# Altium integrated library Linear Technology PMIC-Switching Reg LT1074-LT8705.IntLib: 2252 symbols (part 70 of 124)
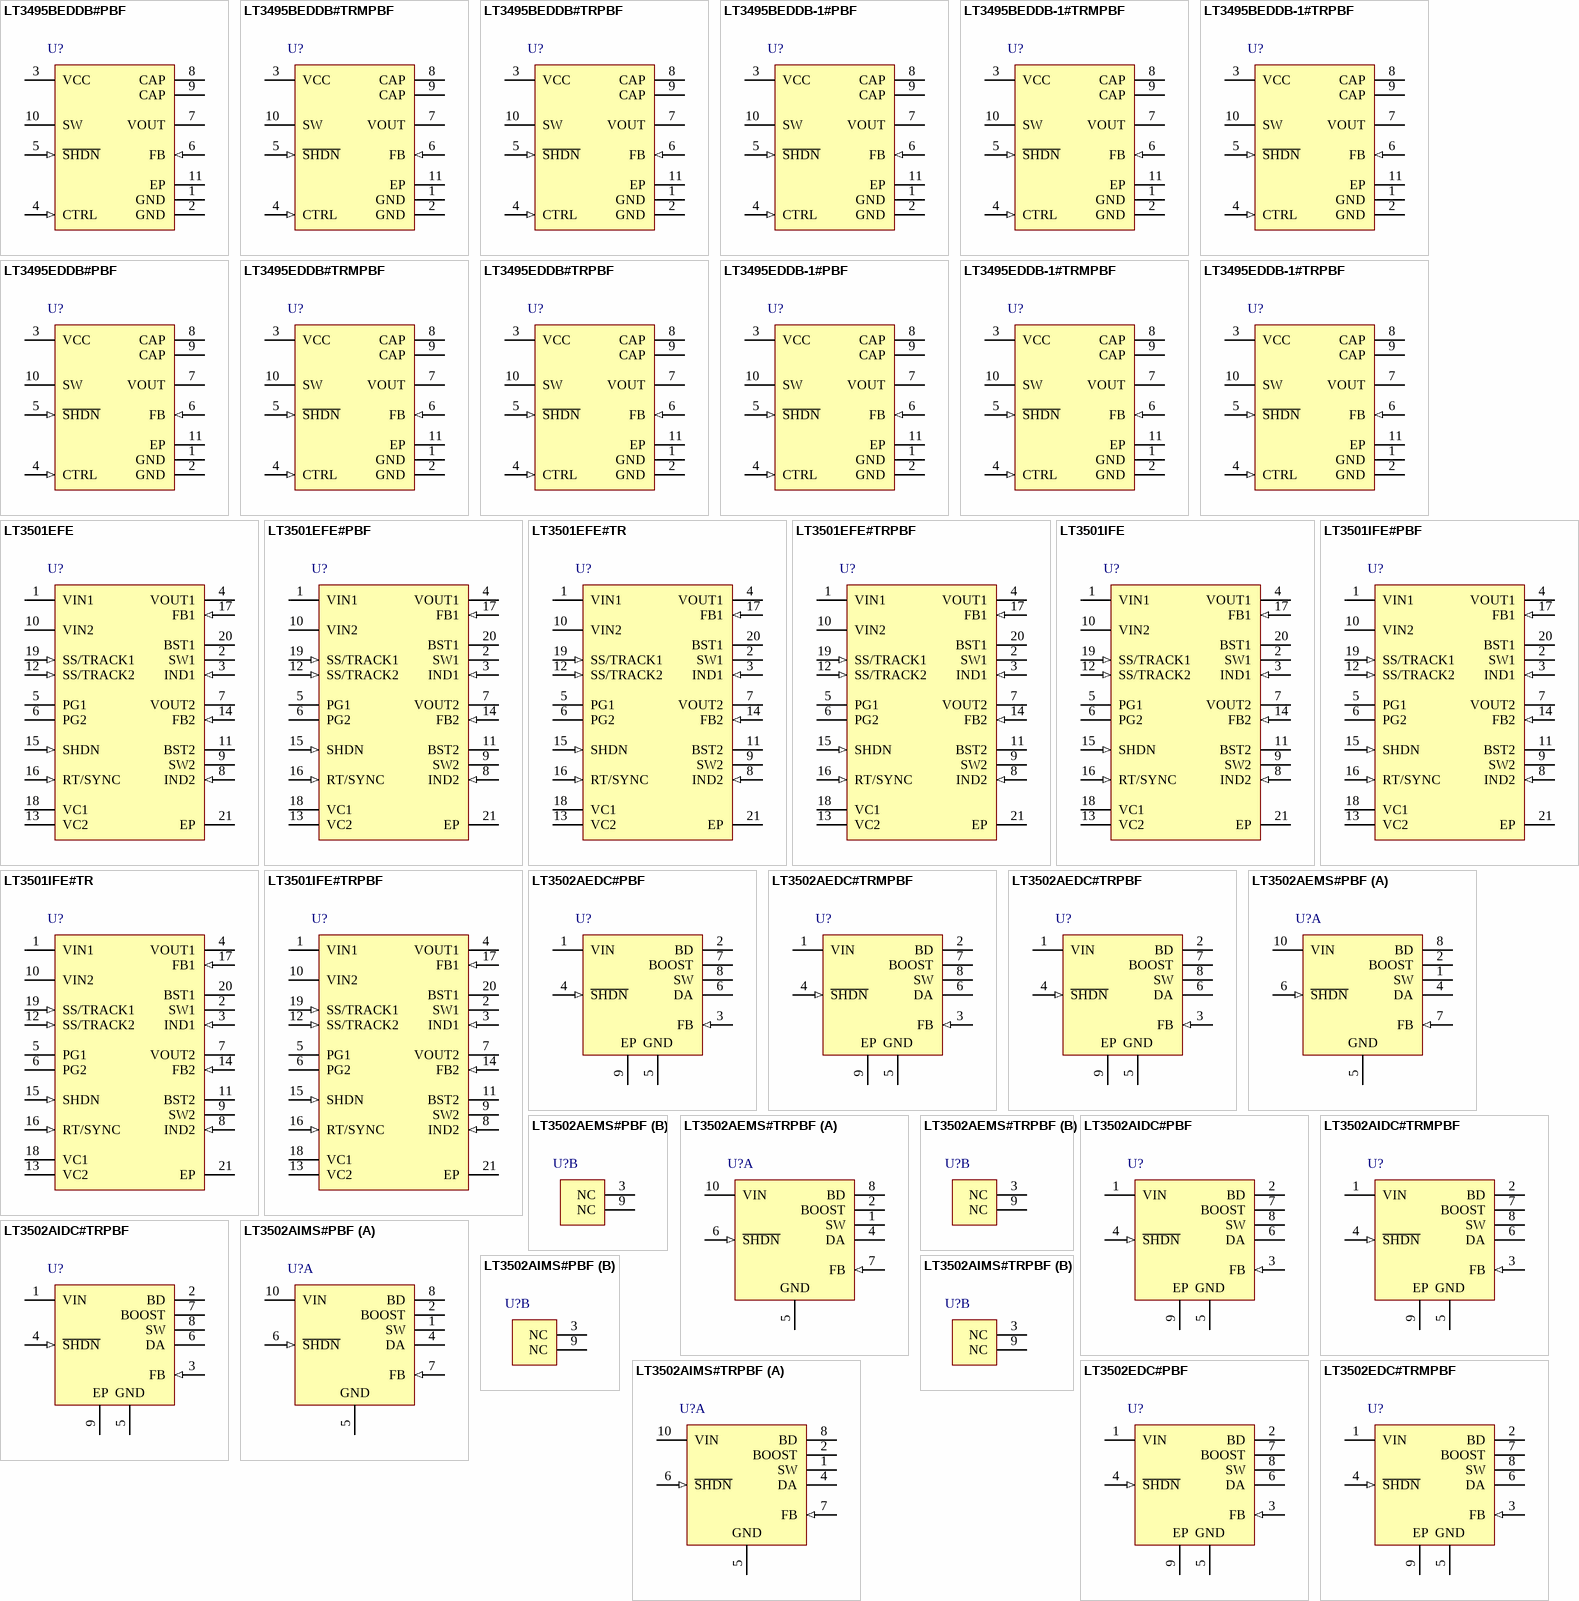
[diagram p140: symbols LT3495BEDDB#PBF to LT3502EDC#TRMPBF]

## LT3495BEDDB#TRMPBF
designator U?
650 mA / 350 mA Micropower Low Noise Boost Converter with Output Disconnect, 10-pin SON (DDB10), -40 to 125 degC, Pb-Free, Mini Tape and Reel; Manufacturer: Linear Technology; PartNumber: LT3495BEDDB#TRMPBF; Number of Outputs: 1; PackageReference: DDB10; PackageDescription: 10-Pin Plastic DFN, Body 3 x 2 mm, Pitch 0.5 mm; Supplier 1: Digi-Key; Supplier Part Number 1: LT3495BEDDB#TRMPBFTR-ND; RoHS: TRUE
footprint LT-DDB-10_V (SON, 10-Leads, Body 3x2mm, Pitch 0.5mm, Thermal Pad 2.39x0.64mm)
pins: 1 GND (power) "Ground. Tie directly to local ground plane.", 2 GND (power) "Ground. Tie directly to local ground plane.", 3 VCC (power) "Input Supply Pin. Must be locally bypassed.", 4 CTRL (in) "Dimming Pin. If not used, tie CTRL to 1.5V or higher. If in use, drive CTRL below 1.235V to override the internal reference. See Applications section for more information.", 5 ~{SHDN} (in) "Shutdown Pin. Tie to 1.5V or more to enable chip. Ground to shut down.", 6 FB (in) "Feedback Pin. Minimize the metal trace area to this pin to minimize noise. Reference voltage is 1.235V. There is an internal 76k resistor from the FB pin to GND.", 7 VOUT (power) "Drain of Output Disconnect PMOS. Place a bypass capacitor from this pin to GND. See Applications information.", 8 CAP "Source of Output Disconnect PMOS. Place a bypass capacitor from this pin to GND.", 9 CAP "Source of Output Disconnect PMOS. Place a bypass capacitor from this pin to GND.", 10 SW "Switch Pin. This is the collector of the internal NPN power switch. Minimize the metal trace area connected to this pin to minimize EMI.", 11 EP (power) "Ground. This pin must be soldered to PCB."

## LT3495BEDDB#TRPBF
designator U?
650 mA / 350 mA Micropower Low Noise Boost Converter with Output Disconnect, 10-pin SON (DDB10), -40 to 125 degC, Pb-Free, Tape and Reel; Manufacturer: Linear Technology; PartNumber: LT3495BEDDB#TRPBF; Number of Outputs: 1; PackageReference: DDB10; PackageDescription: 10-Pin Plastic DFN, Body 3 x 2 mm, Pitch 0.5 mm; Supplier 1: Digi-Key; Supplier Part Number 1: LT3495BEDDB#TRPBF-ND; RoHS: TRUE
footprint LT-DDB-10_V (SON, 10-Leads, Body 3x2mm, Pitch 0.5mm, Thermal Pad 2.39x0.64mm)
pins: 1 GND (power) "Ground. Tie directly to local ground plane.", 2 GND (power) "Ground. Tie directly to local ground plane.", 3 VCC (power) "Input Supply Pin. Must be locally bypassed.", 4 CTRL (in) "Dimming Pin. If not used, tie CTRL to 1.5V or higher. If in use, drive CTRL below 1.235V to override the internal reference. See Applications section for more information.", 5 ~{SHDN} (in) "Shutdown Pin. Tie to 1.5V or more to enable chip. Ground to shut down.", 6 FB (in) "Feedback Pin. Minimize the metal trace area to this pin to minimize noise. Reference voltage is 1.235V. There is an internal 76k resistor from the FB pin to GND.", 7 VOUT (power) "Drain of Output Disconnect PMOS. Place a bypass capacitor from this pin to GND. See Applications information.", 8 CAP "Source of Output Disconnect PMOS. Place a bypass capacitor from this pin to GND.", 9 CAP "Source of Output Disconnect PMOS. Place a bypass capacitor from this pin to GND.", 10 SW "Switch Pin. This is the collector of the internal NPN power switch. Minimize the metal trace area connected to this pin to minimize EMI.", 11 EP (power) "Ground. This pin must be soldered to PCB."

## LT3495BEDDB-1#PBF
designator U?
650 mA / 350 mA Micropower Low Noise Boost Converter with Output Disconnect, 10-pin SON (DDB10), -40 to 125 degC, Pb-Free; Manufacturer: Linear Technology; PartNumber: LT3495BEDDB-1#PBF; Number of Outputs: 1; PackageReference: DDB10; PackageDescription: 10-Pin Plastic DFN, Body 3 x 2 mm, Pitch 0.5 mm; Supplier 1: Farnell; Supplier Part Number 1: 2308209; RoHS: TRUE
footprint LT-DDB-10_V (SON, 10-Leads, Body 3x2mm, Pitch 0.5mm, Thermal Pad 2.39x0.64mm)
pins: 1 GND (power) "Ground. Tie directly to local ground plane.", 2 GND (power) "Ground. Tie directly to local ground plane.", 3 VCC (power) "Input Supply Pin. Must be locally bypassed.", 4 CTRL (in) "Dimming Pin. If not used, tie CTRL to 1.5V or higher. If in use, drive CTRL below 1.235V to override the internal reference. See Applications section for more information.", 5 ~{SHDN} (in) "Shutdown Pin. Tie to 1.5V or more to enable chip. Ground to shut down.", 6 FB (in) "Feedback Pin. Minimize the metal trace area to this pin to minimize noise. Reference voltage is 1.235V. There is an internal 76k resistor from the FB pin to GND.", 7 VOUT (power) "Drain of Output Disconnect PMOS. Place a bypass capacitor from this pin to GND. See Applications information.", 8 CAP "Source of Output Disconnect PMOS. Place a bypass capacitor from this pin to GND.", 9 CAP "Source of Output Disconnect PMOS. Place a bypass capacitor from this pin to GND.", 10 SW "Switch Pin. This is the collector of the internal NPN power switch. Minimize the metal trace area connected to this pin to minimize EMI.", 11 EP (power) "Ground. This pin must be soldered to PCB."

## LT3495BEDDB-1#TRMPBF
designator U?
650 mA / 350 mA Micropower Low Noise Boost Converter with Output Disconnect, 10-pin SON (DDB10), -40 to 125 degC, Pb-Free, Mini Tape and Reel; Manufacturer: Linear Technology; PartNumber: LT3495BEDDB-1#TRMPBF; Number of Outputs: 1; PackageReference: DDB10; PackageDescription: 10-Pin Plastic DFN, Body 3 x 2 mm, Pitch 0.5 mm; Supplier 1: Digi-Key; Supplier Part Number 1: LT3495BEDDB-1#TRMPBFTR-ND; RoHS: TRUE
footprint LT-DDB-10_V (SON, 10-Leads, Body 3x2mm, Pitch 0.5mm, Thermal Pad 2.39x0.64mm)
pins: 1 GND (power) "Ground. Tie directly to local ground plane.", 2 GND (power) "Ground. Tie directly to local ground plane.", 3 VCC (power) "Input Supply Pin. Must be locally bypassed.", 4 CTRL (in) "Dimming Pin. If not used, tie CTRL to 1.5V or higher. If in use, drive CTRL below 1.235V to override the internal reference. See Applications section for more information.", 5 ~{SHDN} (in) "Shutdown Pin. Tie to 1.5V or more to enable chip. Ground to shut down.", 6 FB (in) "Feedback Pin. Minimize the metal trace area to this pin to minimize noise. Reference voltage is 1.235V. There is an internal 76k resistor from the FB pin to GND.", 7 VOUT (power) "Drain of Output Disconnect PMOS. Place a bypass capacitor from this pin to GND. See Applications information.", 8 CAP "Source of Output Disconnect PMOS. Place a bypass capacitor from this pin to GND.", 9 CAP "Source of Output Disconnect PMOS. Place a bypass capacitor from this pin to GND.", 10 SW "Switch Pin. This is the collector of the internal NPN power switch. Minimize the metal trace area connected to this pin to minimize EMI.", 11 EP (power) "Ground. This pin must be soldered to PCB."

## LT3495BEDDB-1#TRPBF
designator U?
650 mA / 350 mA Micropower Low Noise Boost Converter with Output Disconnect, 10-pin SON (DDB10), -40 to 125 degC, Pb-Free, Tape and Reel; Manufacturer: Linear Technology; PartNumber: LT3495BEDDB-1#TRPBF; Number of Outputs: 1; PackageReference: DDB10; PackageDescription: 10-Pin Plastic DFN, Body 3 x 2 mm, Pitch 0.5 mm; Supplier 1: Digi-Key; Supplier Part Number 1: LT3495BEDDB-1#TRPBF-ND; RoHS: TRUE
footprint LT-DDB-10_V (SON, 10-Leads, Body 3x2mm, Pitch 0.5mm, Thermal Pad 2.39x0.64mm)
pins: 1 GND (power) "Ground. Tie directly to local ground plane.", 2 GND (power) "Ground. Tie directly to local ground plane.", 3 VCC (power) "Input Supply Pin. Must be locally bypassed.", 4 CTRL (in) "Dimming Pin. If not used, tie CTRL to 1.5V or higher. If in use, drive CTRL below 1.235V to override the internal reference. See Applications section for more information.", 5 ~{SHDN} (in) "Shutdown Pin. Tie to 1.5V or more to enable chip. Ground to shut down.", 6 FB (in) "Feedback Pin. Minimize the metal trace area to this pin to minimize noise. Reference voltage is 1.235V. There is an internal 76k resistor from the FB pin to GND.", 7 VOUT (power) "Drain of Output Disconnect PMOS. Place a bypass capacitor from this pin to GND. See Applications information.", 8 CAP "Source of Output Disconnect PMOS. Place a bypass capacitor from this pin to GND.", 9 CAP "Source of Output Disconnect PMOS. Place a bypass capacitor from this pin to GND.", 10 SW "Switch Pin. This is the collector of the internal NPN power switch. Minimize the metal trace area connected to this pin to minimize EMI.", 11 EP (power) "Ground. This pin must be soldered to PCB."

## LT3495EDDB#PBF
designator U?
650 mA / 350 mA Micropower Low Noise Boost Converter with Output Disconnect, 10-pin SON (DDB10), -40 to 125 degC, Pb-Free; Manufacturer: Linear Technology; PartNumber: LT3495EDDB#PBF; Number of Outputs: 1; PackageReference: DDB10; PackageDescription: 10-Pin Plastic DFN, Body 3 x 2 mm, Pitch 0.5 mm; Supplier 1: Farnell; Supplier Part Number 1: 2308210; RoHS: TRUE
footprint LT-DDB-10_V (SON, 10-Leads, Body 3x2mm, Pitch 0.5mm, Thermal Pad 2.39x0.64mm)
pins: 1 GND (power) "Ground. Tie directly to local ground plane.", 2 GND (power) "Ground. Tie directly to local ground plane.", 3 VCC (power) "Input Supply Pin. Must be locally bypassed.", 4 CTRL (in) "Dimming Pin. If not used, tie CTRL to 1.5V or higher. If in use, drive CTRL below 1.235V to override the internal reference. See Applications section for more information.", 5 ~{SHDN} (in) "Shutdown Pin. Tie to 1.5V or more to enable chip. Ground to shut down.", 6 FB (in) "Feedback Pin. Minimize the metal trace area to this pin to minimize noise. Reference voltage is 1.235V. There is an internal 76k resistor from the FB pin to GND.", 7 VOUT (power) "Drain of Output Disconnect PMOS. Place a bypass capacitor from this pin to GND. See Applications information.", 8 CAP "Source of Output Disconnect PMOS. Place a bypass capacitor from this pin to GND.", 9 CAP "Source of Output Disconnect PMOS. Place a bypass capacitor from this pin to GND.", 10 SW "Switch Pin. This is the collector of the internal NPN power switch. Minimize the metal trace area connected to this pin to minimize EMI.", 11 EP (power) "Ground. This pin must be soldered to PCB."

## LT3495EDDB#TRMPBF
designator U?
650 mA / 350 mA Micropower Low Noise Boost Converter with Output Disconnect, 10-pin SON (DDB10), -40 to 125 degC, Pb-Free, Mini Tape and Reel; Manufacturer: Linear Technology; PartNumber: LT3495EDDB#TRMPBF; Number of Outputs: 1; PackageReference: DDB10; PackageDescription: 10-Pin Plastic DFN, Body 3 x 2 mm, Pitch 0.5 mm; Supplier 1: Digi-Key; Supplier Part Number 1: LT3495EDDB#TRMPBFTR-ND; RoHS: TRUE
footprint LT-DDB-10_V (SON, 10-Leads, Body 3x2mm, Pitch 0.5mm, Thermal Pad 2.39x0.64mm)
pins: 1 GND (power) "Ground. Tie directly to local ground plane.", 2 GND (power) "Ground. Tie directly to local ground plane.", 3 VCC (power) "Input Supply Pin. Must be locally bypassed.", 4 CTRL (in) "Dimming Pin. If not used, tie CTRL to 1.5V or higher. If in use, drive CTRL below 1.235V to override the internal reference. See Applications section for more information.", 5 ~{SHDN} (in) "Shutdown Pin. Tie to 1.5V or more to enable chip. Ground to shut down.", 6 FB (in) "Feedback Pin. Minimize the metal trace area to this pin to minimize noise. Reference voltage is 1.235V. There is an internal 76k resistor from the FB pin to GND.", 7 VOUT (power) "Drain of Output Disconnect PMOS. Place a bypass capacitor from this pin to GND. See Applications information.", 8 CAP "Source of Output Disconnect PMOS. Place a bypass capacitor from this pin to GND.", 9 CAP "Source of Output Disconnect PMOS. Place a bypass capacitor from this pin to GND.", 10 SW "Switch Pin. This is the collector of the internal NPN power switch. Minimize the metal trace area connected to this pin to minimize EMI.", 11 EP (power) "Ground. This pin must be soldered to PCB."

## LT3495EDDB#TRPBF
designator U?
650 mA / 350 mA Micropower Low Noise Boost Converter with Output Disconnect, 10-pin SON (DDB10), -40 to 125 degC, Pb-Free, Tape and Reel; Manufacturer: Linear Technology; PartNumber: LT3495EDDB#TRPBF; Number of Outputs: 1; PackageReference: DDB10; PackageDescription: 10-Pin Plastic DFN, Body 3 x 2 mm, Pitch 0.5 mm; Supplier 1: Digi-Key; Supplier Part Number 1: LT3495EDDB#TRPBF-ND; RoHS: TRUE
footprint LT-DDB-10_V (SON, 10-Leads, Body 3x2mm, Pitch 0.5mm, Thermal Pad 2.39x0.64mm)
pins: 1 GND (power) "Ground. Tie directly to local ground plane.", 2 GND (power) "Ground. Tie directly to local ground plane.", 3 VCC (power) "Input Supply Pin. Must be locally bypassed.", 4 CTRL (in) "Dimming Pin. If not used, tie CTRL to 1.5V or higher. If in use, drive CTRL below 1.235V to override the internal reference. See Applications section for more information.", 5 ~{SHDN} (in) "Shutdown Pin. Tie to 1.5V or more to enable chip. Ground to shut down.", 6 FB (in) "Feedback Pin. Minimize the metal trace area to this pin to minimize noise. Reference voltage is 1.235V. There is an internal 76k resistor from the FB pin to GND.", 7 VOUT (power) "Drain of Output Disconnect PMOS. Place a bypass capacitor from this pin to GND. See Applications information.", 8 CAP "Source of Output Disconnect PMOS. Place a bypass capacitor from this pin to GND.", 9 CAP "Source of Output Disconnect PMOS. Place a bypass capacitor from this pin to GND.", 10 SW "Switch Pin. This is the collector of the internal NPN power switch. Minimize the metal trace area connected to this pin to minimize EMI.", 11 EP (power) "Ground. This pin must be soldered to PCB."

## LT3495EDDB-1#PBF
designator U?
650 mA / 350 mA Micropower Low Noise Boost Converter with Output Disconnect, 10-pin SON (DDB10), -40 to 125 degC, Pb-Free; Manufacturer: Linear Technology; PartNumber: LT3495EDDB-1#PBF; Number of Outputs: 1; PackageReference: DDB10; PackageDescription: 10-Pin Plastic DFN, Body 3 x 2 mm, Pitch 0.5 mm; RoHS: TRUE
footprint LT-DDB-10_V (SON, 10-Leads, Body 3x2mm, Pitch 0.5mm, Thermal Pad 2.39x0.64mm)
pins: 1 GND (power) "Ground. Tie directly to local ground plane.", 2 GND (power) "Ground. Tie directly to local ground plane.", 3 VCC (power) "Input Supply Pin. Must be locally bypassed.", 4 CTRL (in) "Dimming Pin. If not used, tie CTRL to 1.5V or higher. If in use, drive CTRL below 1.235V to override the internal reference. See Applications section for more information.", 5 ~{SHDN} (in) "Shutdown Pin. Tie to 1.5V or more to enable chip. Ground to shut down.", 6 FB (in) "Feedback Pin. Minimize the metal trace area to this pin to minimize noise. Reference voltage is 1.235V. There is an internal 76k resistor from the FB pin to GND.", 7 VOUT (power) "Drain of Output Disconnect PMOS. Place a bypass capacitor from this pin to GND. See Applications information.", 8 CAP "Source of Output Disconnect PMOS. Place a bypass capacitor from this pin to GND.", 9 CAP "Source of Output Disconnect PMOS. Place a bypass capacitor from this pin to GND.", 10 SW "Switch Pin. This is the collector of the internal NPN power switch. Minimize the metal trace area connected to this pin to minimize EMI.", 11 EP (power) "Ground. This pin must be soldered to PCB."

## LT3495EDDB-1#TRMPBF
designator U?
650 mA / 350 mA Micropower Low Noise Boost Converter with Output Disconnect, 10-pin SON (DDB10), -40 to 125 degC, Pb-Free, Tape and Reel; Manufacturer: Linear Technology; PartNumber: LT3495EDDB-1#TRMPBF; Number of Outputs: 1; PackageReference: DDB10; PackageDescription: 10-Pin Plastic DFN, Body 3 x 2 mm, Pitch 0.5 mm; Supplier 1: Digi-Key; Supplier Part Number 1: LT3495EDDB-1#TRMPBFTR-ND; RoHS: TRUE
footprint LT-DDB-10_V (SON, 10-Leads, Body 3x2mm, Pitch 0.5mm, Thermal Pad 2.39x0.64mm)
pins: 1 GND (power) "Ground. Tie directly to local ground plane.", 2 GND (power) "Ground. Tie directly to local ground plane.", 3 VCC (power) "Input Supply Pin. Must be locally bypassed.", 4 CTRL (in) "Dimming Pin. If not used, tie CTRL to 1.5V or higher. If in use, drive CTRL below 1.235V to override the internal reference. See Applications section for more information.", 5 ~{SHDN} (in) "Shutdown Pin. Tie to 1.5V or more to enable chip. Ground to shut down.", 6 FB (in) "Feedback Pin. Minimize the metal trace area to this pin to minimize noise. Reference voltage is 1.235V. There is an internal 76k resistor from the FB pin to GND.", 7 VOUT (power) "Drain of Output Disconnect PMOS. Place a bypass capacitor from this pin to GND. See Applications information.", 8 CAP "Source of Output Disconnect PMOS. Place a bypass capacitor from this pin to GND.", 9 CAP "Source of Output Disconnect PMOS. Place a bypass capacitor from this pin to GND.", 10 SW "Switch Pin. This is the collector of the internal NPN power switch. Minimize the metal trace area connected to this pin to minimize EMI.", 11 EP (power) "Ground. This pin must be soldered to PCB."

## LT3495EDDB-1#TRPBF
designator U?
650 mA / 350 mA Micropower Low Noise Boost Converter with Output Disconnect, 10-pin SON (DDB10), -40 to 125 degC, Pb-Free, Tape and Reel; Manufacturer: Linear Technology; PartNumber: LT3495EDDB-1#TRPBF; Number of Outputs: 1; PackageReference: DDB10; PackageDescription: 10-Pin Plastic DFN, Body 3 x 2 mm, Pitch 0.5 mm; Supplier 1: Digi-Key; Supplier Part Number 1: LT3495EDDB-1#TRPBF-ND; RoHS: TRUE
footprint LT-DDB-10_V (SON, 10-Leads, Body 3x2mm, Pitch 0.5mm, Thermal Pad 2.39x0.64mm)
pins: 1 GND (power) "Ground. Tie directly to local ground plane.", 2 GND (power) "Ground. Tie directly to local ground plane.", 3 VCC (power) "Input Supply Pin. Must be locally bypassed.", 4 CTRL (in) "Dimming Pin. If not used, tie CTRL to 1.5V or higher. If in use, drive CTRL below 1.235V to override the internal reference. See Applications section for more information.", 5 ~{SHDN} (in) "Shutdown Pin. Tie to 1.5V or more to enable chip. Ground to shut down.", 6 FB (in) "Feedback Pin. Minimize the metal trace area to this pin to minimize noise. Reference voltage is 1.235V. There is an internal 76k resistor from the FB pin to GND.", 7 VOUT (power) "Drain of Output Disconnect PMOS. Place a bypass capacitor from this pin to GND. See Applications information.", 8 CAP "Source of Output Disconnect PMOS. Place a bypass capacitor from this pin to GND.", 9 CAP "Source of Output Disconnect PMOS. Place a bypass capacitor from this pin to GND.", 10 SW "Switch Pin. This is the collector of the internal NPN power switch. Minimize the metal trace area connected to this pin to minimize EMI.", 11 EP (power) "Ground. This pin must be soldered to PCB."

## LT3501EFE
designator U?
Monolithic Dual Tracking 3 A Step-Down Switching Regulator, 20-pin SOP (FE-20-EPV-CB), -40 to 125 degC; Manufacturer: Linear Technology; PartNumber: LT3501EFE; Number of Outputs: 2; PackageReference: FE-20; PackageDescription: 20-Pin Plastic TSSOP, Body 6.5 x 4.4 mm, Pitch 0.65 mm; RoHS: FALSE
footprint LT-FE-20-EPV-CB_N (SOP, 20-Leads, Body 6.6x4.5mm, Pitch 0.65mm, Thermal Pad 3.86x2.74mm, IPC Medium Density)
footprint LT-FE-20-EPV-CB_L (SOP, 20-Leads, Body 6.6x4.5mm, Pitch 0.65mm, Thermal Pad 3.86x2.74mm, IPC High Density)
footprint LT-FE-20-EPV-CB_M (SOP, 20-Leads, Body 6.6x4.5mm, Pitch 0.65mm, Thermal Pad 3.86x2.74mm, IPC Low Density)
pins: 1 VIN1 (power) "The VIN1 pin powers the internal control circuitry for both channels and is monitored by the undervoltage lockout comparator. The VIN1 pin is also connected to the collector of channel 1’s on-chip power NPN switch. Th(See Datasheet)", 2 SW1 "The SW pin is the emitter of the onchip power NPN. At switch-off, the inductor will drive this pin below ground with a high dV/dt. An external Schottky catch diode to ground, close to the SW pin and respective VIN decoupling (See Datasheet)", 3 IND1 (in) "The IND pin is the input to the on-chip sense resistor that measures current flowing in the inductor. When the current in the resistor exceeds the current dictated by the VC pin, the SW latch is held in reset, disabling the (See Datasheet)", 4 VOUT1 (power) "The VOUT pin is the output to the on-chip sense resistor that measures current flowing in the inductor. When the current in the resistor exceeds the current dictated by the VC pin, the SW latch is held in reset, disabling (See Datasheet)", 5 PG1 (oc) "The power good pin is an open-collector output that sinks current when the feedback falls below 90% of its nominal regulating voltage. For VIN1 above 1V, its output state remains true, although during shutdown, VIN1 (See Datasheet)", 6 PG2 (oc) "The power good pin is an open-collector output that sinks current when the feedback falls below 90% of its nominal regulating voltage. For VIN1 above 1V, its output state remains true, although during shutdown, VIN1 (See Datasheet)", 7 VOUT2 (power) "The VOUT pin is the output to the on-chip sense resistor that measures current flowing in the inductor. When the current in the resistor exceeds the current dictated by the VC pin, the SW latch is held in reset, disabling (See Datasheet)", 8 IND2 (in) "The IND pin is the input to the on-chip sense resistor that measures current flowing in the inductor. When the current in the resistor exceeds the current dictated by the VC pin, the SW latch is held in reset, disabling the (See Datasheet)", 9 SW2 "The SW pin is the emitter of the onchip power NPN. At switch-off, the inductor will drive this pin below ground with a high dV/dt. An external Schottky catch diode to ground, close to the SW pin and respective VIN decoupling (See Datasheet)", 10 VIN2 (power) "The VIN2 pin is the collector of channel 2’s on-chip power NPN switch. This pin is independent of VIN1 and may be connected to the same or a separate supply. In either case, high dI/dt edges are present and decoupling t(See Datasheet)", 11 BST2 "The BST pin provides a higher than VIN base drive to the power NPN to ensure a low switch drop. A comparator to VIN imposes a minimum off-time on the SW pin if the BST pin voltage drops too low. Forcing a SW off-time allows (See Datasheet)", 12 SS/TRACK2 (in) "The SS1/2 pins control the softstart and sequence of their respective outputs. A single capacitor from the SS pin to ground determines the output ramp rate. For soft-start and output tracking/sequencing details, see the (See Datasheet)", 13 VC2 "The VC pin is the output of the error amplifier and the input to the peak switch current  comparator. It is normally used for frequency compensation, but can also be used as a current clamp or control loop override. If the (See Datasheet)", 14 FB2 (in) "The FB pin is the negative input to the error amplifier. The output switches regulate this pin to 0.8V, with respect to the exposed ground pad. Bias current flows out of the FB pin.", 15 SHDN (in) "The shutdown pin is used to turn off both channels and control circuitry to reduce quiescent current to a typical value of 9uA. The accurate 1.28V threshold and input current hysteresis can be used as an undervoltage (See Datasheet)", 16 RT/SYNC (in) "This RT/SYNC pin provides two modes of setting the constant switch frequency.", 17 FB1 (in) "The FB pin is the negative input to the error amplifier. The output switches regulate this pin to 0.8V, with respect to the exposed ground pad. Bias current flows out of the FB pin.", 18 VC1 "The VC pin is the output of the error amplifier and the input to the peak switch current  comparator. It is normally used for frequency compensation, but can also be used as a current clamp or control loop override. If the (See Datasheet)", 19 SS/TRACK1 (in) "The SS1/2 pins control the softstart and sequence of their respective outputs. A single capacitor from the SS pin to ground determines the output ramp rate. For soft-start and output tracking/sequencing details, see the (See Datasheet)", 20 BST1 "The BST pin provides a higher than VIN base drive to the power NPN to ensure a low switch drop. A comparator to VIN imposes a minimum off-time on the SW pin if the BST pin voltage drops too low. Forcing a SW off-time allows (See Datasheet)", 21 EP (power) "GND. The Exposed Pad GND pin is the only ground connection for the device. The Exposed Pad should be soldered to a large copper area to reduce thermal resistance. The GND pin is common to both channels and also serves as (See Datasheet)"

## LT3501EFE#PBF
designator U?
Monolithic Dual Tracking 3 A Step-Down Switching Regulator, 20-pin SOP (FE-20-EPV-CB), -40 to 125 degC, Pb-Free; Manufacturer: Linear Technology; PartNumber: LT3501EFE#PBF; Number of Outputs: 2; PackageReference: FE-20; PackageDescription: 20-Pin Plastic TSSOP, Body 6.5 x 4.4 mm, Pitch 0.65 mm; Supplier 1: Digi-Key; Supplier Part Number 1: LT3501EFE#PBF-ND; RoHS: TRUE
footprint LT-FE-20-EPV-CB_N (SOP, 20-Leads, Body 6.6x4.5mm, Pitch 0.65mm, Thermal Pad 3.86x2.74mm, IPC Medium Density)
footprint LT-FE-20-EPV-CB_L (SOP, 20-Leads, Body 6.6x4.5mm, Pitch 0.65mm, Thermal Pad 3.86x2.74mm, IPC High Density)
footprint LT-FE-20-EPV-CB_M (SOP, 20-Leads, Body 6.6x4.5mm, Pitch 0.65mm, Thermal Pad 3.86x2.74mm, IPC Low Density)
pins: 1 VIN1 (power) "The VIN1 pin powers the internal control circuitry for both channels and is monitored by the undervoltage lockout comparator. The VIN1 pin is also connected to the collector of channel 1’s on-chip power NPN switch. Th(See Datasheet)", 2 SW1 "The SW pin is the emitter of the onchip power NPN. At switch-off, the inductor will drive this pin below ground with a high dV/dt. An external Schottky catch diode to ground, close to the SW pin and respective VIN decoupling (See Datasheet)", 3 IND1 (in) "The IND pin is the input to the on-chip sense resistor that measures current flowing in the inductor. When the current in the resistor exceeds the current dictated by the VC pin, the SW latch is held in reset, disabling the (See Datasheet)", 4 VOUT1 (power) "The VOUT pin is the output to the on-chip sense resistor that measures current flowing in the inductor. When the current in the resistor exceeds the current dictated by the VC pin, the SW latch is held in reset, disabling (See Datasheet)", 5 PG1 (oc) "The power good pin is an open-collector output that sinks current when the feedback falls below 90% of its nominal regulating voltage. For VIN1 above 1V, its output state remains true, although during shutdown, VIN1 (See Datasheet)", 6 PG2 (oc) "The power good pin is an open-collector output that sinks current when the feedback falls below 90% of its nominal regulating voltage. For VIN1 above 1V, its output state remains true, although during shutdown, VIN1 (See Datasheet)", 7 VOUT2 (power) "The VOUT pin is the output to the on-chip sense resistor that measures current flowing in the inductor. When the current in the resistor exceeds the current dictated by the VC pin, the SW latch is held in reset, disabling (See Datasheet)", 8 IND2 (in) "The IND pin is the input to the on-chip sense resistor that measures current flowing in the inductor. When the current in the resistor exceeds the current dictated by the VC pin, the SW latch is held in reset, disabling the (See Datasheet)", 9 SW2 "The SW pin is the emitter of the onchip power NPN. At switch-off, the inductor will drive this pin below ground with a high dV/dt. An external Schottky catch diode to ground, close to the SW pin and respective VIN decoupling (See Datasheet)", 10 VIN2 (power) "The VIN2 pin is the collector of channel 2’s on-chip power NPN switch. This pin is independent of VIN1 and may be connected to the same or a separate supply. In either case, high dI/dt edges are present and decoupling t(See Datasheet)", 11 BST2 "The BST pin provides a higher than VIN base drive to the power NPN to ensure a low switch drop. A comparator to VIN imposes a minimum off-time on the SW pin if the BST pin voltage drops too low. Forcing a SW off-time allows (See Datasheet)", 12 SS/TRACK2 (in) "The SS1/2 pins control the softstart and sequence of their respective outputs. A single capacitor from the SS pin to ground determines the output ramp rate. For soft-start and output tracking/sequencing details, see the (See Datasheet)", 13 VC2 "The VC pin is the output of the error amplifier and the input to the peak switch current  comparator. It is normally used for frequency compensation, but can also be used as a current clamp or control loop override. If the (See Datasheet)", 14 FB2 (in) "The FB pin is the negative input to the error amplifier. The output switches regulate this pin to 0.8V, with respect to the exposed ground pad. Bias current flows out of the FB pin.", 15 SHDN (in) "The shutdown pin is used to turn off both channels and control circuitry to reduce quiescent current to a typical value of 9uA. The accurate 1.28V threshold and input current hysteresis can be used as an undervoltage (See Datasheet)", 16 RT/SYNC (in) "This RT/SYNC pin provides two modes of setting the constant switch frequency.", 17 FB1 (in) "The FB pin is the negative input to the error amplifier. The output switches regulate this pin to 0.8V, with respect to the exposed ground pad. Bias current flows out of the FB pin.", 18 VC1 "The VC pin is the output of the error amplifier and the input to the peak switch current  comparator. It is normally used for frequency compensation, but can also be used as a current clamp or control loop override. If the (See Datasheet)", 19 SS/TRACK1 (in) "The SS1/2 pins control the softstart and sequence of their respective outputs. A single capacitor from the SS pin to ground determines the output ramp rate. For soft-start and output tracking/sequencing details, see the (See Datasheet)", 20 BST1 "The BST pin provides a higher than VIN base drive to the power NPN to ensure a low switch drop. A comparator to VIN imposes a minimum off-time on the SW pin if the BST pin voltage drops too low. Forcing a SW off-time allows (See Datasheet)", 21 EP (power) "GND. The Exposed Pad GND pin is the only ground connection for the device. The Exposed Pad should be soldered to a large copper area to reduce thermal resistance. The GND pin is common to both channels and also serves as (See Datasheet)"

## LT3501EFE#TR
designator U?
Monolithic Dual Tracking 3 A Step-Down Switching Regulator, 20-pin SOP (FE-20-EPV-CB), -40 to 125 degC, Tape and Reel; Manufacturer: Linear Technology; PartNumber: LT3501EFE#TR; Number of Outputs: 2; PackageReference: FE-20; PackageDescription: 20-Pin Plastic TSSOP, Body 6.5 x 4.4 mm, Pitch 0.65 mm; RoHS: FALSE
footprint LT-FE-20-EPV-CB_N (SOP, 20-Leads, Body 6.6x4.5mm, Pitch 0.65mm, Thermal Pad 3.86x2.74mm, IPC Medium Density)
footprint LT-FE-20-EPV-CB_L (SOP, 20-Leads, Body 6.6x4.5mm, Pitch 0.65mm, Thermal Pad 3.86x2.74mm, IPC High Density)
footprint LT-FE-20-EPV-CB_M (SOP, 20-Leads, Body 6.6x4.5mm, Pitch 0.65mm, Thermal Pad 3.86x2.74mm, IPC Low Density)
pins: 1 VIN1 (power) "The VIN1 pin powers the internal control circuitry for both channels and is monitored by the undervoltage lockout comparator. The VIN1 pin is also connected to the collector of channel 1’s on-chip power NPN switch. Th(See Datasheet)", 2 SW1 "The SW pin is the emitter of the onchip power NPN. At switch-off, the inductor will drive this pin below ground with a high dV/dt. An external Schottky catch diode to ground, close to the SW pin and respective VIN decoupling (See Datasheet)", 3 IND1 (in) "The IND pin is the input to the on-chip sense resistor that measures current flowing in the inductor. When the current in the resistor exceeds the current dictated by the VC pin, the SW latch is held in reset, disabling the (See Datasheet)", 4 VOUT1 (power) "The VOUT pin is the output to the on-chip sense resistor that measures current flowing in the inductor. When the current in the resistor exceeds the current dictated by the VC pin, the SW latch is held in reset, disabling (See Datasheet)", 5 PG1 (oc) "The power good pin is an open-collector output that sinks current when the feedback falls below 90% of its nominal regulating voltage. For VIN1 above 1V, its output state remains true, although during shutdown, VIN1 (See Datasheet)", 6 PG2 (oc) "The power good pin is an open-collector output that sinks current when the feedback falls below 90% of its nominal regulating voltage. For VIN1 above 1V, its output state remains true, although during shutdown, VIN1 (See Datasheet)", 7 VOUT2 (power) "The VOUT pin is the output to the on-chip sense resistor that measures current flowing in the inductor. When the current in the resistor exceeds the current dictated by the VC pin, the SW latch is held in reset, disabling (See Datasheet)", 8 IND2 (in) "The IND pin is the input to the on-chip sense resistor that measures current flowing in the inductor. When the current in the resistor exceeds the current dictated by the VC pin, the SW latch is held in reset, disabling the (See Datasheet)", 9 SW2 "The SW pin is the emitter of the onchip power NPN. At switch-off, the inductor will drive this pin below ground with a high dV/dt. An external Schottky catch diode to ground, close to the SW pin and respective VIN decoupling (See Datasheet)", 10 VIN2 (power) "The VIN2 pin is the collector of channel 2’s on-chip power NPN switch. This pin is independent of VIN1 and may be connected to the same or a separate supply. In either case, high dI/dt edges are present and decoupling t(See Datasheet)", 11 BST2 "The BST pin provides a higher than VIN base drive to the power NPN to ensure a low switch drop. A comparator to VIN imposes a minimum off-time on the SW pin if the BST pin voltage drops too low. Forcing a SW off-time allows (See Datasheet)", 12 SS/TRACK2 (in) "The SS1/2 pins control the softstart and sequence of their respective outputs. A single capacitor from the SS pin to ground determines the output ramp rate. For soft-start and output tracking/sequencing details, see the (See Datasheet)", 13 VC2 "The VC pin is the output of the error amplifier and the input to the peak switch current  comparator. It is normally used for frequency compensation, but can also be used as a current clamp or control loop override. If the (See Datasheet)", 14 FB2 (in) "The FB pin is the negative input to the error amplifier. The output switches regulate this pin to 0.8V, with respect to the exposed ground pad. Bias current flows out of the FB pin.", 15 SHDN (in) "The shutdown pin is used to turn off both channels and control circuitry to reduce quiescent current to a typical value of 9uA. The accurate 1.28V threshold and input current hysteresis can be used as an undervoltage (See Datasheet)", 16 RT/SYNC (in) "This RT/SYNC pin provides two modes of setting the constant switch frequency.", 17 FB1 (in) "The FB pin is the negative input to the error amplifier. The output switches regulate this pin to 0.8V, with respect to the exposed ground pad. Bias current flows out of the FB pin.", 18 VC1 "The VC pin is the output of the error amplifier and the input to the peak switch current  comparator. It is normally used for frequency compensation, but can also be used as a current clamp or control loop override. If the (See Datasheet)", 19 SS/TRACK1 (in) "The SS1/2 pins control the softstart and sequence of their respective outputs. A single capacitor from the SS pin to ground determines the output ramp rate. For soft-start and output tracking/sequencing details, see the (See Datasheet)", 20 BST1 "The BST pin provides a higher than VIN base drive to the power NPN to ensure a low switch drop. A comparator to VIN imposes a minimum off-time on the SW pin if the BST pin voltage drops too low. Forcing a SW off-time allows (See Datasheet)", 21 EP (power) "GND. The Exposed Pad GND pin is the only ground connection for the device. The Exposed Pad should be soldered to a large copper area to reduce thermal resistance. The GND pin is common to both channels and also serves as (See Datasheet)"

## LT3501EFE#TRPBF
designator U?
Monolithic Dual Tracking 3 A Step-Down Switching Regulator, 20-pin SOP (FE-20-EPV-CB), -40 to 125 degC, Pb-Free, Tape and Reel; Manufacturer: Linear Technology; PartNumber: LT3501EFE#TRPBF; Number of Outputs: 2; PackageReference: FE-20; PackageDescription: 20-Pin Plastic TSSOP, Body 6.5 x 4.4 mm, Pitch 0.65 mm; Supplier 1: Digi-Key; Supplier Part Number 1: LT3501EFE#TRPBF-ND; RoHS: TRUE
footprint LT-FE-20-EPV-CB_N (SOP, 20-Leads, Body 6.6x4.5mm, Pitch 0.65mm, Thermal Pad 3.86x2.74mm, IPC Medium Density)
footprint LT-FE-20-EPV-CB_L (SOP, 20-Leads, Body 6.6x4.5mm, Pitch 0.65mm, Thermal Pad 3.86x2.74mm, IPC High Density)
footprint LT-FE-20-EPV-CB_M (SOP, 20-Leads, Body 6.6x4.5mm, Pitch 0.65mm, Thermal Pad 3.86x2.74mm, IPC Low Density)
pins: 1 VIN1 (power) "The VIN1 pin powers the internal control circuitry for both channels and is monitored by the undervoltage lockout comparator. The VIN1 pin is also connected to the collector of channel 1’s on-chip power NPN switch. Th(See Datasheet)", 2 SW1 "The SW pin is the emitter of the onchip power NPN. At switch-off, the inductor will drive this pin below ground with a high dV/dt. An external Schottky catch diode to ground, close to the SW pin and respective VIN decoupling (See Datasheet)", 3 IND1 (in) "The IND pin is the input to the on-chip sense resistor that measures current flowing in the inductor. When the current in the resistor exceeds the current dictated by the VC pin, the SW latch is held in reset, disabling the (See Datasheet)", 4 VOUT1 (power) "The VOUT pin is the output to the on-chip sense resistor that measures current flowing in the inductor. When the current in the resistor exceeds the current dictated by the VC pin, the SW latch is held in reset, disabling (See Datasheet)", 5 PG1 (oc) "The power good pin is an open-collector output that sinks current when the feedback falls below 90% of its nominal regulating voltage. For VIN1 above 1V, its output state remains true, although during shutdown, VIN1 (See Datasheet)", 6 PG2 (oc) "The power good pin is an open-collector output that sinks current when the feedback falls below 90% of its nominal regulating voltage. For VIN1 above 1V, its output state remains true, although during shutdown, VIN1 (See Datasheet)", 7 VOUT2 (power) "The VOUT pin is the output to the on-chip sense resistor that measures current flowing in the inductor. When the current in the resistor exceeds the current dictated by the VC pin, the SW latch is held in reset, disabling (See Datasheet)", 8 IND2 (in) "The IND pin is the input to the on-chip sense resistor that measures current flowing in the inductor. When the current in the resistor exceeds the current dictated by the VC pin, the SW latch is held in reset, disabling the (See Datasheet)", 9 SW2 "The SW pin is the emitter of the onchip power NPN. At switch-off, the inductor will drive this pin below ground with a high dV/dt. An external Schottky catch diode to ground, close to the SW pin and respective VIN decoupling (See Datasheet)", 10 VIN2 (power) "The VIN2 pin is the collector of channel 2’s on-chip power NPN switch. This pin is independent of VIN1 and may be connected to the same or a separate supply. In either case, high dI/dt edges are present and decoupling t(See Datasheet)", 11 BST2 "The BST pin provides a higher than VIN base drive to the power NPN to ensure a low switch drop. A comparator to VIN imposes a minimum off-time on the SW pin if the BST pin voltage drops too low. Forcing a SW off-time allows (See Datasheet)", 12 SS/TRACK2 (in) "The SS1/2 pins control the softstart and sequence of their respective outputs. A single capacitor from the SS pin to ground determines the output ramp rate. For soft-start and output tracking/sequencing details, see the (See Datasheet)", 13 VC2 "The VC pin is the output of the error amplifier and the input to the peak switch current  comparator. It is normally used for frequency compensation, but can also be used as a current clamp or control loop override. If the (See Datasheet)", 14 FB2 (in) "The FB pin is the negative input to the error amplifier. The output switches regulate this pin to 0.8V, with respect to the exposed ground pad. Bias current flows out of the FB pin.", 15 SHDN (in) "The shutdown pin is used to turn off both channels and control circuitry to reduce quiescent current to a typical value of 9uA. The accurate 1.28V threshold and input current hysteresis can be used as an undervoltage (See Datasheet)", 16 RT/SYNC (in) "This RT/SYNC pin provides two modes of setting the constant switch frequency.", 17 FB1 (in) "The FB pin is the negative input to the error amplifier. The output switches regulate this pin to 0.8V, with respect to the exposed ground pad. Bias current flows out of the FB pin.", 18 VC1 "The VC pin is the output of the error amplifier and the input to the peak switch current  comparator. It is normally used for frequency compensation, but can also be used as a current clamp or control loop override. If the (See Datasheet)", 19 SS/TRACK1 (in) "The SS1/2 pins control the softstart and sequence of their respective outputs. A single capacitor from the SS pin to ground determines the output ramp rate. For soft-start and output tracking/sequencing details, see the (See Datasheet)", 20 BST1 "The BST pin provides a higher than VIN base drive to the power NPN to ensure a low switch drop. A comparator to VIN imposes a minimum off-time on the SW pin if the BST pin voltage drops too low. Forcing a SW off-time allows (See Datasheet)", 21 EP (power) "GND. The Exposed Pad GND pin is the only ground connection for the device. The Exposed Pad should be soldered to a large copper area to reduce thermal resistance. The GND pin is common to both channels and also serves as (See Datasheet)"

## LT3501IFE
designator U?
Monolithic Dual Tracking 3 A Step-Down Switching Regulator, 20-pin SOP (FE-20-EPV-CB), -40 to 125 degC; Manufacturer: Linear Technology; PartNumber: LT3501IFE; Number of Outputs: 2; PackageReference: FE-20; PackageDescription: 20-Pin Plastic TSSOP, Body 6.5 x 4.4 mm, Pitch 0.65 mm; RoHS: FALSE
footprint LT-FE-20-EPV-CB_N (SOP, 20-Leads, Body 6.6x4.5mm, Pitch 0.65mm, Thermal Pad 3.86x2.74mm, IPC Medium Density)
footprint LT-FE-20-EPV-CB_L (SOP, 20-Leads, Body 6.6x4.5mm, Pitch 0.65mm, Thermal Pad 3.86x2.74mm, IPC High Density)
footprint LT-FE-20-EPV-CB_M (SOP, 20-Leads, Body 6.6x4.5mm, Pitch 0.65mm, Thermal Pad 3.86x2.74mm, IPC Low Density)
pins: 1 VIN1 (power) "The VIN1 pin powers the internal control circuitry for both channels and is monitored by the undervoltage lockout comparator. The VIN1 pin is also connected to the collector of channel 1’s on-chip power NPN switch. Th(See Datasheet)", 2 SW1 "The SW pin is the emitter of the onchip power NPN. At switch-off, the inductor will drive this pin below ground with a high dV/dt. An external Schottky catch diode to ground, close to the SW pin and respective VIN decoupling (See Datasheet)", 3 IND1 (in) "The IND pin is the input to the on-chip sense resistor that measures current flowing in the inductor. When the current in the resistor exceeds the current dictated by the VC pin, the SW latch is held in reset, disabling the (See Datasheet)", 4 VOUT1 (power) "The VOUT pin is the output to the on-chip sense resistor that measures current flowing in the inductor. When the current in the resistor exceeds the current dictated by the VC pin, the SW latch is held in reset, disabling (See Datasheet)", 5 PG1 (oc) "The power good pin is an open-collector output that sinks current when the feedback falls below 90% of its nominal regulating voltage. For VIN1 above 1V, its output state remains true, although during shutdown, VIN1 (See Datasheet)", 6 PG2 (oc) "The power good pin is an open-collector output that sinks current when the feedback falls below 90% of its nominal regulating voltage. For VIN1 above 1V, its output state remains true, although during shutdown, VIN1 (See Datasheet)", 7 VOUT2 (power) "The VOUT pin is the output to the on-chip sense resistor that measures current flowing in the inductor. When the current in the resistor exceeds the current dictated by the VC pin, the SW latch is held in reset, disabling (See Datasheet)", 8 IND2 (in) "The IND pin is the input to the on-chip sense resistor that measures current flowing in the inductor. When the current in the resistor exceeds the current dictated by the VC pin, the SW latch is held in reset, disabling the (See Datasheet)", 9 SW2 "The SW pin is the emitter of the onchip power NPN. At switch-off, the inductor will drive this pin below ground with a high dV/dt. An external Schottky catch diode to ground, close to the SW pin and respective VIN decoupling (See Datasheet)", 10 VIN2 (power) "The VIN2 pin is the collector of channel 2’s on-chip power NPN switch. This pin is independent of VIN1 and may be connected to the same or a separate supply. In either case, high dI/dt edges are present and decoupling t(See Datasheet)", 11 BST2 "The BST pin provides a higher than VIN base drive to the power NPN to ensure a low switch drop. A comparator to VIN imposes a minimum off-time on the SW pin if the BST pin voltage drops too low. Forcing a SW off-time allows (See Datasheet)", 12 SS/TRACK2 (in) "The SS1/2 pins control the softstart and sequence of their respective outputs. A single capacitor from the SS pin to ground determines the output ramp rate. For soft-start and output tracking/sequencing details, see the (See Datasheet)", 13 VC2 "The VC pin is the output of the error amplifier and the input to the peak switch current  comparator. It is normally used for frequency compensation, but can also be used as a current clamp or control loop override. If the (See Datasheet)", 14 FB2 (in) "The FB pin is the negative input to the error amplifier. The output switches regulate this pin to 0.8V, with respect to the exposed ground pad. Bias current flows out of the FB pin.", 15 SHDN (in) "The shutdown pin is used to turn off both channels and control circuitry to reduce quiescent current to a typical value of 9uA. The accurate 1.28V threshold and input current hysteresis can be used as an undervoltage (See Datasheet)", 16 RT/SYNC (in) "This RT/SYNC pin provides two modes of setting the constant switch frequency.", 17 FB1 (in) "The FB pin is the negative input to the error amplifier. The output switches regulate this pin to 0.8V, with respect to the exposed ground pad. Bias current flows out of the FB pin.", 18 VC1 "The VC pin is the output of the error amplifier and the input to the peak switch current  comparator. It is normally used for frequency compensation, but can also be used as a current clamp or control loop override. If the (See Datasheet)", 19 SS/TRACK1 (in) "The SS1/2 pins control the softstart and sequence of their respective outputs. A single capacitor from the SS pin to ground determines the output ramp rate. For soft-start and output tracking/sequencing details, see the (See Datasheet)", 20 BST1 "The BST pin provides a higher than VIN base drive to the power NPN to ensure a low switch drop. A comparator to VIN imposes a minimum off-time on the SW pin if the BST pin voltage drops too low. Forcing a SW off-time allows (See Datasheet)", 21 EP (power) "GND. The Exposed Pad GND pin is the only ground connection for the device. The Exposed Pad should be soldered to a large copper area to reduce thermal resistance. The GND pin is common to both channels and also serves as (See Datasheet)"